# Altium footprint library SparkFun Electronics Biometrics.PcbLib: 1 footprints
Each footprint in its own frame and in the unit in brackets; x right, y up, seen from the top. Pads: shape width x height; smd on the part's side, far side on the other; paste and mask are expansions set on the pad; w line width, h text height; cw(c..) or ccw(c..) is an arc to the next point about the centre after c.
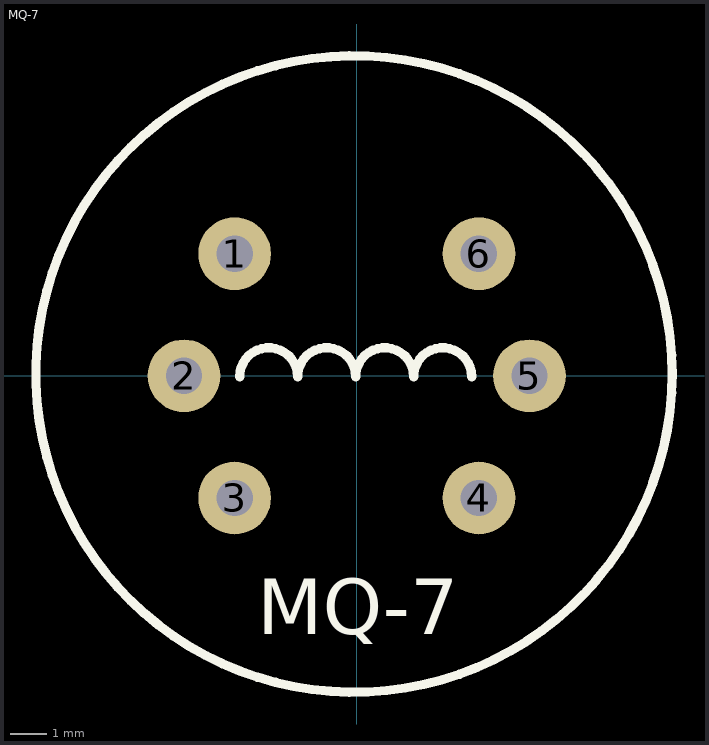
[diagram p0: the footprint, top view; thin cyan lines are the x and y axes]

## MQ-7 [mm] "Cylinder, 6-Pin Through Hole"
pads (6):
  round 2 hole 1: 1(-3.359,3.359) 2(-4.75,0) 3(-3.359,-3.359) 4(3.359,-3.359) 5(4.75,0) 6(3.359,3.359)
Top Overlay:
  circle w0.254: c-0.076,0.051 r8.75
  lines w0.254: -3.221,-0.025 cw(c-2.423,-0.025) -1.626,-0.025 cw(c-0.828,-0.025) -0.03,-0.025 cw(c0.767,-0.025) 1.565,-0.025 cw(c2.362,-0.025) 3.16,-0.025
  text "MQ-7" at -2.743,-7.112 h1.52